# Altium integrated library Chip Cap 0402.IntLib: 1 symbol
Pins are listed as number, name and electrical type; pins without a type are passive.

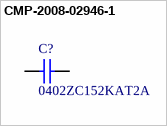
[diagram p0: symbol CMP-2008-02946-1]

## CMP-2008-02946-1
designator C?, comment 0402ZC152KAT2A
Manufacturer: AVX Interconnect / Elco; Part Number: 0402ZC152KAT2A
footprint CAPC1005X56X25ML10T15 (Chip Capacitor, 2-Leads, Body 1.00x0.50mm, IPC Low Density)
footprint CAPC1005X56X25LL10T15 (Chip Capacitor, 2-Leads, Body 1.00x0.50mm, IPC High Density)
footprint CAPC1005X56X25NL10T15 (Chip Capacitor, 2-Leads, Body 1.00x0.50mm, IPC Medium Density)
pins: 1, 2
1 alternate drawing of the same symbol